# Altium footprint library SOD-80.PcbLib: 1 footprints
Each footprint in its own frame and in the unit in brackets; x right, y up, seen from the top. Pads: shape width x height; smd on the part's side, far side on the other; paste and mask are expansions set on the pad; w line width, h text height; cw(c..) or ccw(c..) is an arc to the next point about the centre after c.
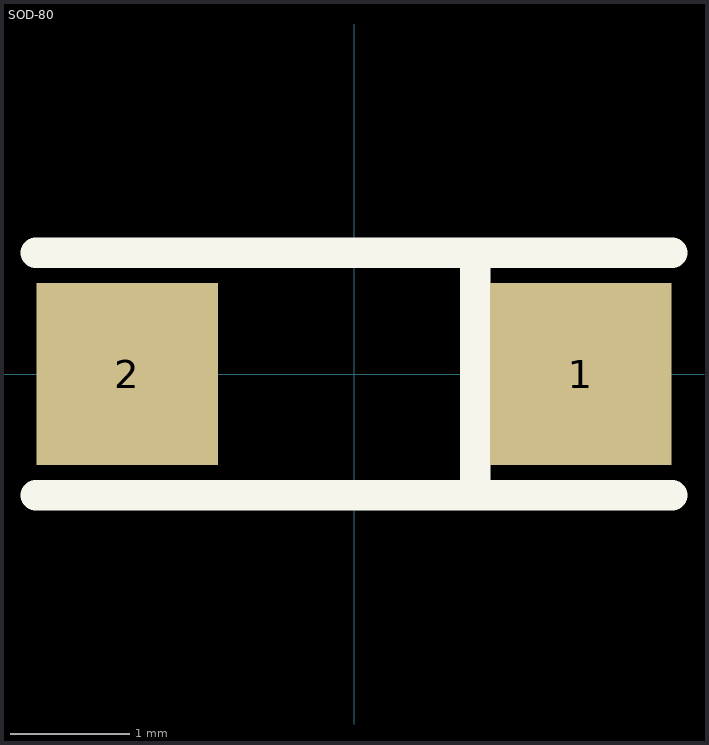
[diagram p0: the footprint, top view; thin cyan lines are the x and y axes]

## SOD-80 [mil]
pads (2):
  rect 60x60 smd: 1(74.8,0) 2(-74.8,0)
Top Overlay:
  lines w10: -105,-40 105,-40 ; -105,40 105,40 ; 40,-35 40,35
3D body "LL4148 (SOD-80).STEP": height 61.02, standoff 1.97, extent -67.91,-29.31 67.91,29.31